# EAGLE library part BTS740S2 (library PROFET - Infineon)
BTS740S2 Smart High-Side Power Switch, Two Channels: 2x30mOhm, Current Sense, VBB 43V, R(ON) one-30mOhm SOIC127P1030X265-20N-1
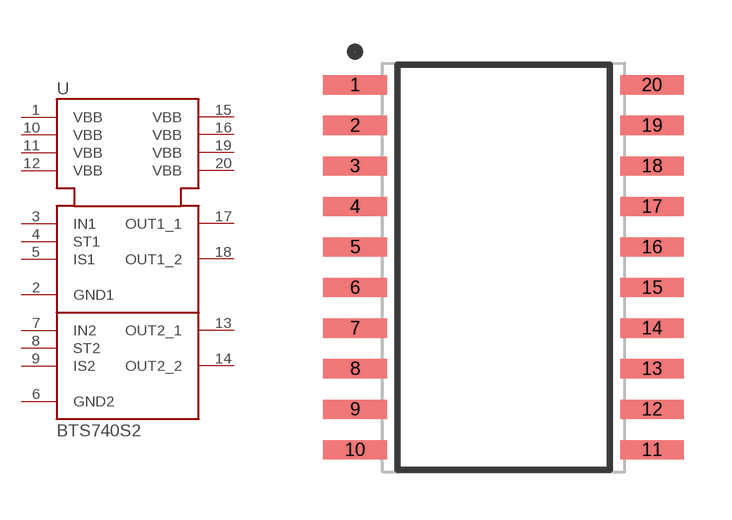
[diagram p3: symbol with the pads of SOIC127P1030X265-20N-1; footprint SOIC127P1030X265-20N-1]

Designator prefix U

## BTS740S2  [SOIC127P1030X265-20N-1]
1  VBB  pwr
2  GND1  pwr
3  IN1  in
4  ST1  oc
5  IS1  out
6  GND2  pwr
7  IN2  in
8  ST2  oc
9  IS2  out
10  VBB  pwr
11  VBB  pwr
12  VBB  pwr
13  OUT2_1  out
14  OUT2_2  out
15  VBB  pwr
16  VBB  pwr
17  OUT1_1  out
18  OUT1_2  out
19  VBB  pwr
20  VBB  pwr

## Footprint SOIC127P1030X265-20N-1 (pad centres in mm)
Original name SOIC127P1030X265-20N-1 Max Component Height - 2.65mm
smd 2 x 0.6: 1 -4.65,5.715; 2 -4.65,4.445; 3 -4.65,3.175; 4 -4.65,1.905; 5 -4.65,0.635; 6 -4.65,-0.635; 7 -4.65,-1.905; 8 -4.65,-3.175; 9 -4.65,-4.445; 10 -4.65,-5.715; 11 4.65,-5.715; 12 4.65,-4.445; 13 4.65,-3.175; 14 4.65,-1.905; 15 4.65,-0.635; 16 4.65,0.635; 17 4.65,1.905; 18 4.65,3.175; 19 4.65,4.445; 20 4.65,5.715